# EAGLE library part 2X9601 (library dec-con)
Approximates the function of a pair of DEC9601 chips.
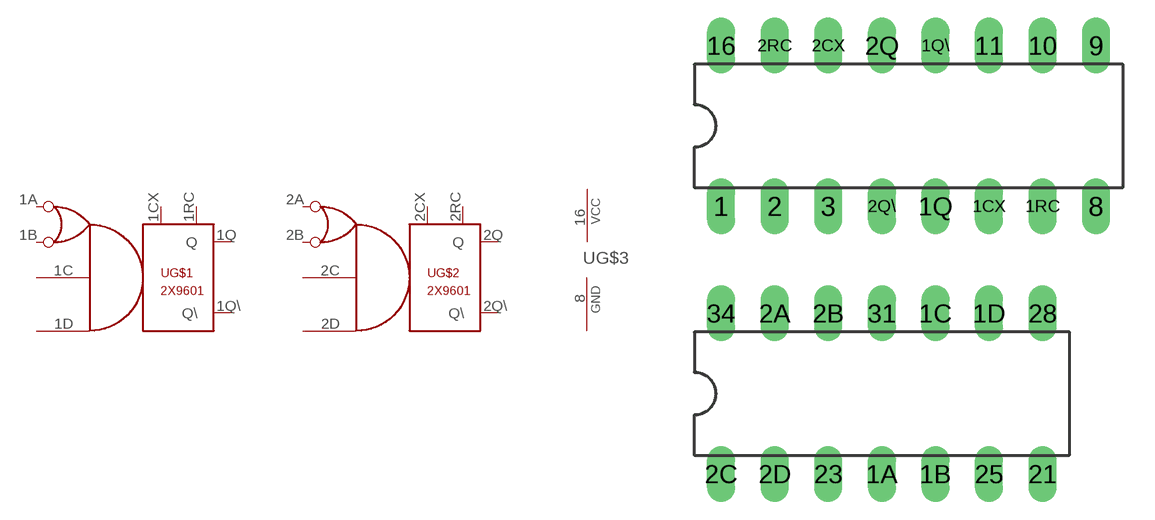
[diagram p5: symbol with the pads of EXPERIMENTAL; footprint EXPERIMENTAL]

Designator prefix -; gates G$1=9601 G$2=9601 G$3=PWRN

## 2X9601  [EXPERIMENTAL]
1A  G$1:P$1  in
1B  G$1:P$2  in
1C  G$1:P$3  in
1CX  G$1:P$5
1D  G$1:P$4  in
1Q  G$1:Q  out
1Q\  G$1:Q\  out
1RC  G$1:P$6
2A  G$2:P$1  in
2B  G$2:P$2  in
2C  G$2:P$3  in
2CX  G$2:P$5
2D  G$2:P$4  in
2Q  G$2:Q  out
2Q\  G$2:Q\  out
2RC  G$2:P$6
8  G$3:GND  pwr
16  G$3:VCC  pwr

## Footprint EXPERIMENTAL (pad centres in mm)
Dual In Line Package
drill 0.813 long: 1 -8.89,2.54; 1A -1.27,-10.16; 1B 1.27,-10.16; 1C 1.27,-2.54; 1CX 3.81,2.54; 1D 3.81,-2.54; 1Q 1.27,2.54; 1Q\ 1.27,10.16; 1RC 6.35,2.54; 2 -6.35,2.54; 2A -6.35,-2.54; 2B -3.81,-2.54; 2C -8.89,-10.16; 2CX -3.81,10.16; 2D -6.35,-10.16; 2Q -1.27,10.16; 2Q\ -1.27,2.54; 2RC -6.35,10.16; 3 -3.81,2.54; 8 8.89,2.54; 9 8.89,10.16; 10 6.35,10.16; 11 3.81,10.16; 16 -8.89,10.16; 21 6.35,-10.16; 23 -3.81,-10.16; 25 3.81,-10.16; 28 6.35,-2.54; 31 -1.27,-2.54; 34 -8.89,-2.54